# EAGLE library part OPA1622 (library myparts)
Operational Amplifier, Audio
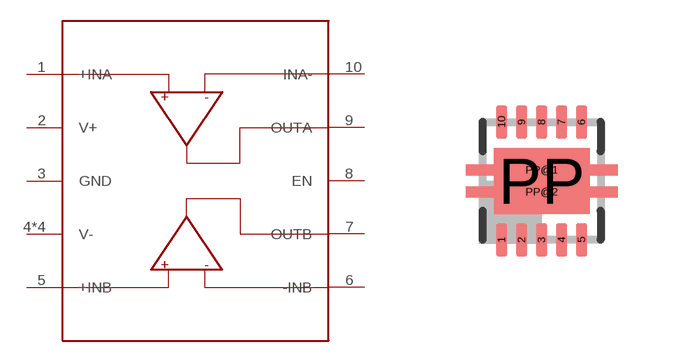
[diagram p0: symbol with the pads of S-PDSO-N10; footprint S-PDSO-N10]

Designator prefix -

## OPA1622  [S-PDSO-N10]
1  +INA  in
2  V+  pwr
3  GND  pwr
4  V-  pwr
5  +INB  in
6  -INB  in
7  OUTB  out
8  EN  sup
9  OUTA  out
10  INA-  in
PP  V-  pwr
PP@1  V-  pwr
PP@2  V-  pwr

## Footprint S-PDSO-N10 (pad centres in mm)
QFN 10 3 x 3 mm Source: http://focus.ti.com/lit/ds/symlink/tps61200.pdf
smd 0.28 x 0.85: 1 -1,-1.475; 2 -0.5,-1.475; 3 0,-1.475; 4 0.5,-1.475; 5 1,-1.475; 6 1,1.475; 7 0.5,1.475; 8 0,1.475; 9 -0.5,1.475; 10 -1,1.475
smd 2.4 x 1.65: PP 0,0
smd 3.8 x 0.28: PP@1 0,0.275; PP@2 0,-0.275